# Altium footprint library Main Board.PcbLib: 34 footprints (part 3 of 3)
Each footprint in its own frame and in the unit in brackets; x right, y up, seen from the top. Pads: shape width x height; smd on the part's side, far side on the other; paste and mask are expansions set on the pad; w line width, h text height; cw(c..) or ccw(c..) is an arc to the next point about the centre after c.
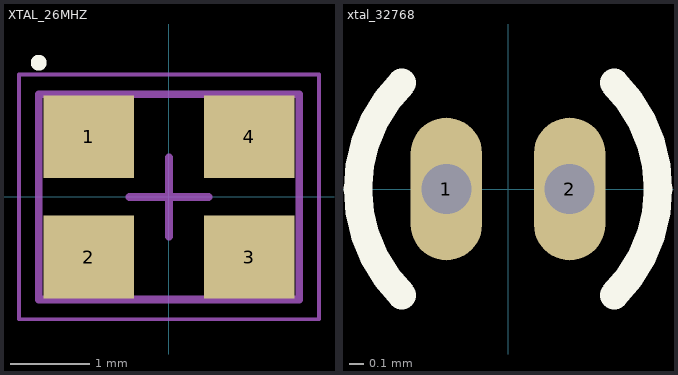
[diagram p2: the footprints below, top view; thin cyan lines are the x and y axes]

## XTAL_26MHZ [mm] "DFN, 4-Leads, Body 2,50x3,20mm, Pitch 2,20mm, IPC Medium Density"
height 0.9
pads (4):
  rect 1.15x1.05 smd: 1(-1.016,0.762) 2(-1.016,-0.762) 3(1.016,-0.762) 4(1.016,0.762)
Top Overlay:
  circle w0.1: c-1.65,1.7 r0.05
Mechanical 13:
  lines w0.1: -1.65,-1.3 -1.65,1.3 1.65,1.3 1.65,-1.3 -1.65,-1.3
Mechanical 15:
  lines w0.05: -1.9,-1.55 -1.9,1.55 1.9,1.55 1.9,-1.55 -1.9,-1.55
  lines w0.1: -0.5,0 0.5,0 ; 0,-0.5 0,0.5
3D body: height 0.9, standoff 0, extent -1.65,-1.3 1.65,1.3

## xtal_32768 [mm]
pads (2):
  oval 0.5x1 hole 0.35: 1(-0.432,0) 2(0.432,0)
Top Overlay:
  lines w0.2: -0.742,-0.742 cw(c0,0) -0.742,0.742 ; 0.742,-0.742 ccw(c0,0) 0.742,0.742
3D body: height 1.9, standoff -1.6, extent 0.303,-0.13 0.562,0.13
3D body: height 1.9, standoff -1.6, extent -0.561,-0.13 -0.302,0.13
3D body: height 6.2, standoff 0.5, extent -1.05,-1.047 1.05,1.047